# Altium footprint library DSK-3R3H224U-HL.PcbLib: 1 footprints
Each footprint in its own frame and in the unit in brackets; x right, y up, seen from the top. Pads: shape width x height; smd on the part's side, far side on the other; paste and mask are expansions set on the pad; w line width, h text height; cw(c..) or ccw(c..) is an arc to the next point about the centre after c.
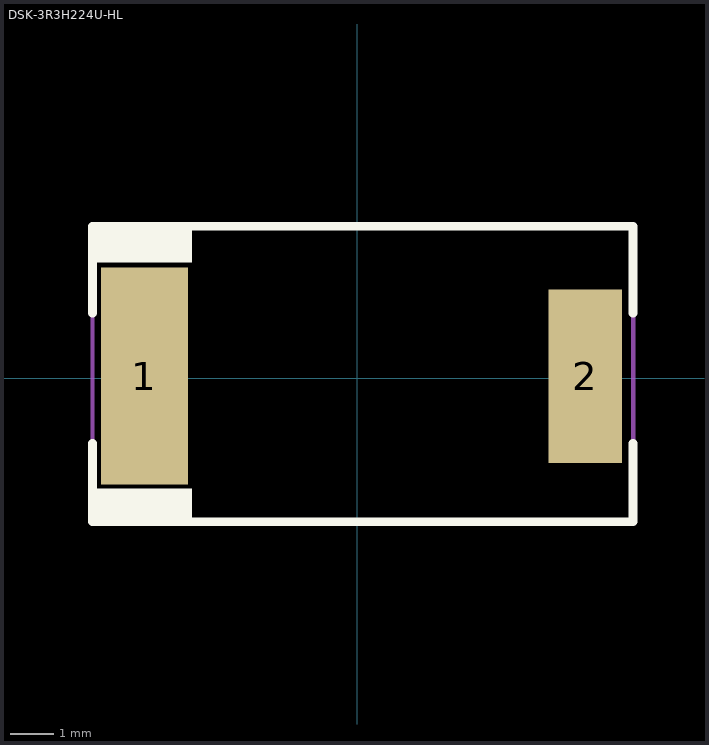
[diagram p0: the footprint, top view; thin cyan lines are the x and y axes]

## DSK-3R3H224U-HL [mm]
height 0.9
pads (2):
  rect 2x5 smd: 1(-4.9,0.05)
  rect 1.7x4 smd: 2(5.25,0.05)
Top Overlay:
  rectangle: -6.096,-3.302 -3.81,-2.54
  rectangle: -6.096,2.667 -3.81,3.429
  lines w0.2: -6.096,-1.5 -6.096,-3.3 6.35,-3.3 6.35,-1.5 ; -6.096,1.5 -6.096,3.5 6.35,3.5 6.35,1.5
Top Assembly:
  lines w0.1: -6.096,-3.3 -6.096,3.5 6.35,3.5 6.35,-3.3 -6.096,-3.3
  text "'.Designator'" at -0.925,-0.325 h0.7
3D body "DSK-3R3H224U-HL.x_t": height 3, standoff 0, extent -5.6,-3.3 5.7,3.5